# EAGLE library part MINI-USB (library gost_con_other)
Mini-USB connector 1 - VBUS 2 - D- 3 - D+ 4 - ID 5 - GND
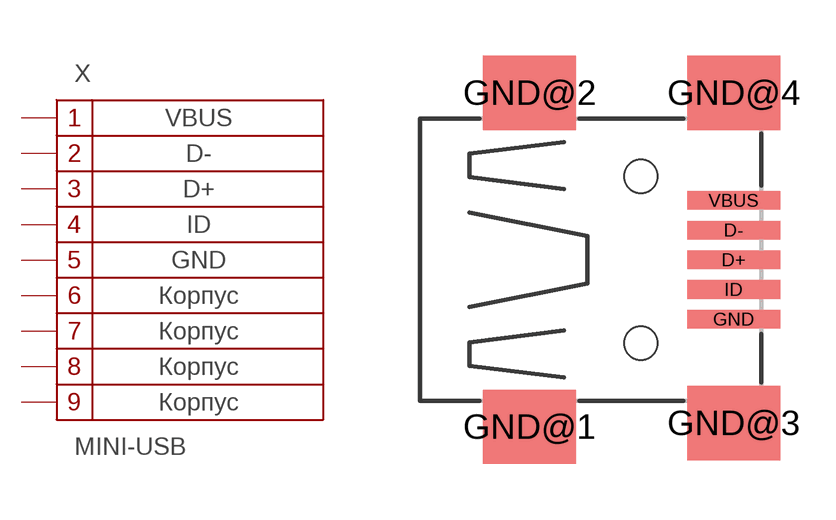
[diagram p2: symbol with the pads of USB-M-S1; footprint USB-M-S1]

Designator prefix X

## MINI-USB (HEIGHT: 5)  [USB-M-S1]
D+  3
D-  2
GND  5
GND@1  6
GND@2  7
GND@3  8
GND@4  9
ID  4
VBUS  1

## Footprint USB-M-S1 (pad centres in mm)
Разъем mini-USB
smd 2.5 x 0.5: D+ 2.75,0; D- 2.75,0.8; GND 2.75,-1.6; ID 2.75,-0.8; VBUS 2.75,1.6
smd 2.5 x 2: GND@1 -2.75,-4.5; GND@2 -2.75,4.5; GND@3 2.75,-4.4; GND@4 2.75,4.5
hole 0.9 at 0.25,2.25
hole 0.9 at 0.25,-2.25